# Altium footprint library Connectors.PcbLib: 9 footprints
Each footprint in its own frame and in the unit in brackets; x right, y up, seen from the top. Pads: shape width x height; smd on the part's side, far side on the other; paste and mask are expansions set on the pad; w line width, h text height; cw(c..) or ccw(c..) is an arc to the next point about the centre after c.
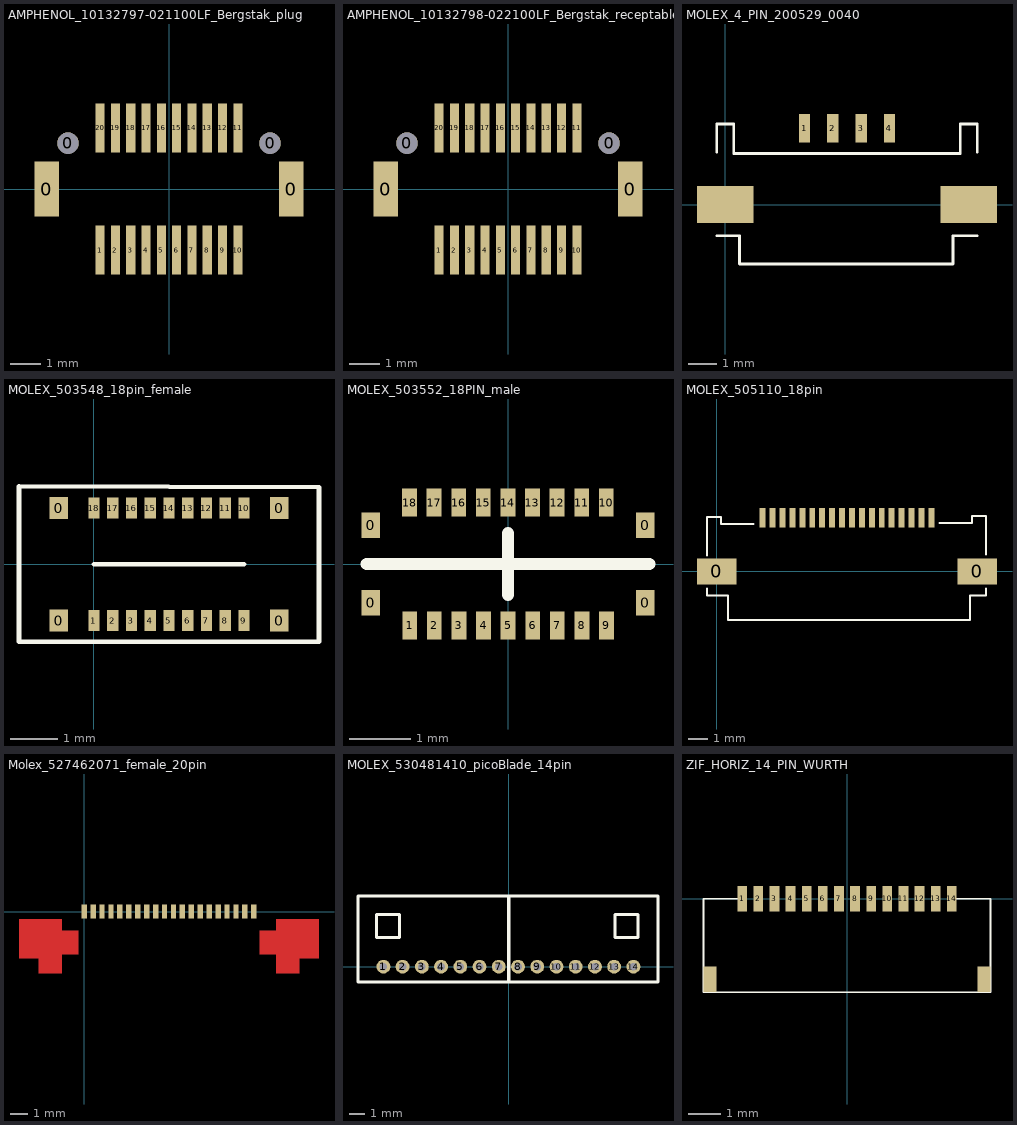
[diagram p0: the footprints below, top view; thin cyan lines are the x and y axes]

## AMPHENOL_10132797-021100LF_Bergstak_plug [mm] "plug/male, 0.5 mm pitch, 20 pin, 3 mm mated height"
pads (24):
  rect 0.8x1.8 smd: 0(-4,0) 0(4,0)
  round 0.7 hole 0.7 unplated: 0(-3.3,1.5) 0(3.3,1.5)
  rect 0.3x1.6 smd: 1(-2.25,-2) 2(-1.75,-2) 3(-1.25,-2) 4(-0.75,-2) 5(-0.25,-2) 6(0.25,-2) 7(0.75,-2) 8(1.25,-2) 9(1.75,-2) 10(2.25,-2) 11(2.25,2) 12(1.75,2) 13(1.25,2) 14(0.75,2) 15(0.25,2) 16(-0.25,2) 17(-0.75,2) 18(-1.25,2) 19(-1.75,2) 20(-2.25,2)
3D body "10132798-021100LF_plug.stp": height 2.7, standoff -0.5, extent -4.05,-2.3 4.05,2.3

## AMPHENOL_10132798-022100LF_Bergstak_receptable [mm] "receptable/female, 0.5 mm pitch, 20 pin, 3 mm mated height"
pads (24):
  rect 0.8x1.8 smd: 0(-4,0) 0(4,0)
  round 0.7 hole 0.7 unplated: 0(-3.3,1.5) 0(3.3,1.5)
  rect 0.3x1.6 smd: 1(-2.25,-2) 2(-1.75,-2) 3(-1.25,-2) 4(-0.75,-2) 5(-0.25,-2) 6(0.25,-2) 7(0.75,-2) 8(1.25,-2) 9(1.75,-2) 10(2.25,-2) 11(2.25,2) 12(1.75,2) 13(1.25,2) 14(0.75,2) 15(0.25,2) 16(-0.25,2) 17(-0.75,2) 18(-1.25,2) 19(-1.75,2) 20(-2.25,2)
3D body "10132798-022100LF_receptable.stp": height 2.3, standoff -0.4, extent -4,-2.3 4,2.3

## MOLEX_4_PIN_200529_0040 [mm] "Molex 200529 ZIF 4 Pin bottom contact"
height 1.9
pads (6):
  rect 0.4x1 smd: 1(2.8,2.7) 2(3.8,2.7) 3(4.8,2.7) 4(5.8,2.7)
  rect 2x1.3 smd: ""(0,0) ""(8.6,0)
Top Overlay:
  lines w0.1: -0.3,-1.1 0.5,-1.1 0.5,-2.1 8.05,-2.1 8.05,-1.1 8.9,-1.1 ; -0.3,1.863 -0.3,2.85 0.3,2.85 0.3,1.8 8.3,1.8 8.3,2.85 8.9,2.85 8.9,1.863
3D body "2005290040.stp": height 1.88, standoff -0.08, extent -0.7,-2.3 9.3,3

## MOLEX_503548_18pin_female [mm] "18 pin mezzaine connector"
pads (22):
  rect 0.4x0.47 smd: 0(-0.75,-1.2) 0(-0.75,1.2) 0(3.95,-1.2) 0(3.95,1.2)
  rect 0.24x0.45 smd: 1(0,-1.2) 2(0.4,-1.2) 3(0.8,-1.2) 4(1.2,-1.2) 5(1.6,-1.2) 6(2,-1.2) 7(2.4,-1.2) 8(2.8,-1.2) 9(3.2,-1.2) 10(3.2,1.2) 11(2.8,1.2) 12(2.4,1.2) 13(2,1.2) 14(1.6,1.2) 15(1.2,1.2) 16(0.8,1.2) 17(0.4,1.2) 18(0,1.2)
Top Overlay:
  lines w0.1: 0,0 3.2,0 ; -1.6,-1.65 4.8,-1.65 4.8,1.644 -1.6,1.662 -1.6,-1.65
3D body "5035481822.stp": height 0.68, standoff 0, extent -1.55,-1.3 4.75,1.3

## MOLEX_503552_18PIN_male [mm] "18 pin male mezzanine connector"
pads (22):
  rect 0.3x0.42 smd: 0(-2.23,-0.63) 0(-2.23,0.63) 0(2.23,-0.63) 0(2.23,0.63)
  rect 0.24x0.45 smd: 1(-1.598,-1) 2(-1.198,-1) 3(-0.798,-1) 4(-0.398,-1) 5(0.002,-1) 6(0.402,-1) 7(0.802,-1) 8(1.202,-1) 9(1.602,-1) 10(1.598,1) 11(1.198,1) 12(0.798,1) 13(0.398,1) 14(-0.002,1) 15(-0.402,1) 16(-0.802,1) 17(-1.202,1) 18(-1.602,1)
Top Overlay:
  lines w0.2: -2.3,0 0,0 ; 0,-0.5 0,0 ; 0,0.5 0,0 ; 2.3,0 0,0
3D body "5035521822.stp": height 0.56, standoff -0.02, extent -2.53,-1.1 2.53,1.1

## MOLEX_505110_18pin [mm] "Molex 505110 series, 0.5 mm pitch, 18 pin, 1.9 mm height"
pads (20):
  rect 2x1.3 smd: 0(0,0) 0(13.1,0)
  rect 0.3x1 smd: 1(2.3,2.7) 2(2.8,2.7) 3(3.3,2.7) 4(3.8,2.7) 5(4.3,2.7) 6(4.8,2.7) 7(5.3,2.7) 8(5.8,2.7) 9(6.3,2.7) 10(6.8,2.7) 11(7.3,2.7) 12(7.8,2.7) 13(8.3,2.7) 14(8.8,2.7) 15(9.3,2.7) 16(9.8,2.7) 17(10.3,2.7) 18(10.8,2.7)
Top Overlay:
  lines w0.1: -0.5,-0.85 -0.5,-1.2 0.55,-1.2 0.55,-2.45 12.75,-2.45 12.75,-1.2 13.55,-1.2 13.55,-0.85 ; -0.5,0.8 -0.5,2.75 0.2,2.75 0.2,2.4 1.85,2.4 ; 11.2,2.45 12.85,2.45 12.85,2.8 13.55,2.8 13.55,0.85
3D body "5052781833.stp": height 1.88, standoff -0.02, extent -0.7,-2.4 13.8,2.9

## Molex_527462071_female_20pin [mm]
pads (20):
  rect 0.3x0.8 smd: 1(0,0) 2(0.5,0) 3(1,0) 4(1.5,0) 5(2,0) 6(2.5,0) 7(3,0) 8(3.5,0) 9(4,0) 10(4.5,0) 11(5,0) 12(5.5,0) 13(6,0) 14(6.5,0) 15(7,0) 16(7.5,0) 17(8,0) 18(8.5,0) 19(9,0) 20(9.5,0)
Top Layer:
  rectangle: -2.55,-3.475 -1.25,-0.425
  rectangle: -3.65,-2.625 -2.55,-0.425
  rectangle: -1.25,-2.4 -0.311,-1.05
  rectangle: 10.75,-3.475 12.05,-0.425
  rectangle: 12.05,-2.625 13.15,-0.425
  rectangle: 9.811,-2.4 10.75,-1.05
3D body "527462071.stp": height 2, standoff -0.02, extent -3.3,-4.95 12.8,0.05

## MOLEX_530481410_picoBlade_14pin [mm] "pico Blade connector wire-to-board"
pads (14):
  round 0.9 hole 0.5: 1(-8.15,0) 2(-6.9,0) 3(-5.65,0) 4(-4.4,0) 5(-3.15,0) 6(-1.9,0) 7(-0.65,0) 8(0.6,0) 9(1.85,0) 10(3.1,0) 11(4.35,0) 12(5.6,0) 13(6.85,0) 14(8.1,0)
Top Overlay:
  lines w0.2: 0,-0.95 0,4.55 ; -9.8,-1 9.7,-1 9.7,4.6 -9.8,4.6 -9.8,-1 ; -8.6,1.9 -8.6,3.4 -7.1,3.4 -7.1,1.9 -8.6,1.9 ; 6.9,1.9 8.4,1.9 8.4,3.4 6.9,3.4 6.9,1.9
3D body "530481410.stp": height 3.6, standoff -2.2, extent -9.65,-0.925 9.6,4.575

## ZIF_HORIZ_14_PIN_WURTH [mm] "WR-FPC SMT ZIF Horizontal Back Locking, 687114182122"
pads (16):
  rect 0.3x0.8 smd: 1(-3.25,0) 2(-2.75,0) 3(-2.25,0) 4(-1.75,0) 5(-1.25,0) 6(-0.75,0) 7(-0.25,0) 8(0.25,0) 9(0.75,0) 10(1.25,0) 11(1.75,0) 12(2.25,0) 13(2.75,0) 14(3.25,0)
  rect 0.4x0.8 smd: ""(-4.25,-2.5) ""(4.25,-2.5)
Top Overlay:
  lines w0.05: -3.25,0 -4.45,0 -4.45,-2.9 4.2,-2.9 4.45,-2.9 4.45,0 3.25,0